# EAGLE library part M04X2 (library Brendan)
.1" header, two rows of four.
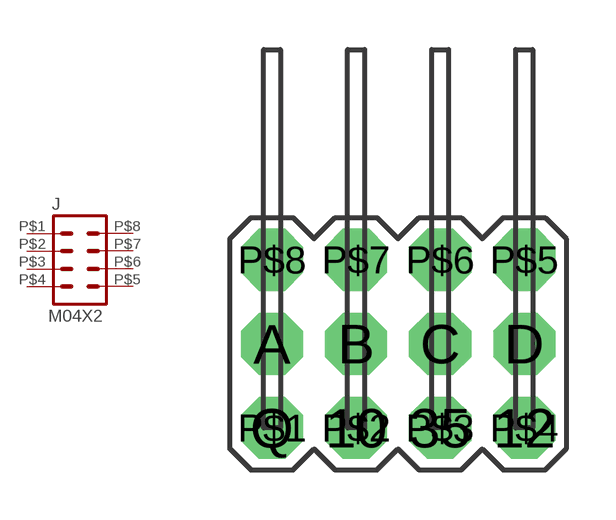
[diagram p4: symbol with the pads of 2X4; footprint 2X4]

Designator prefix J

## M04X2  [2X4]
P$1  1  pas
P$2  2  pas
P$3  3  pas
P$4  4  pas
P$5  5  pas
P$6  6  pas
P$7  7  pas
P$8  8  pas

## Footprint 2X4 (pad centres in mm)
drill 1.016 pad 1.88 octagon: 10 -1.27,-2.54; 12 3.81,-2.54; 35 1.27,-2.54; A -3.81,0; B -1.27,0; C 1.27,0; D 3.81,0; P$1 -3.81,-2.54; P$2 -1.27,-2.54; P$3 1.27,-2.54; P$4 3.81,-2.54; P$5 3.81,2.54; P$6 1.27,2.54; P$7 -1.27,2.54; P$8 -3.81,2.54; Q -3.81,-2.54